# Altium schematic symbol library Macropad.SchLib: 7 symbols
Pins are listed as number, name and electrical type; pins without a type are passive.

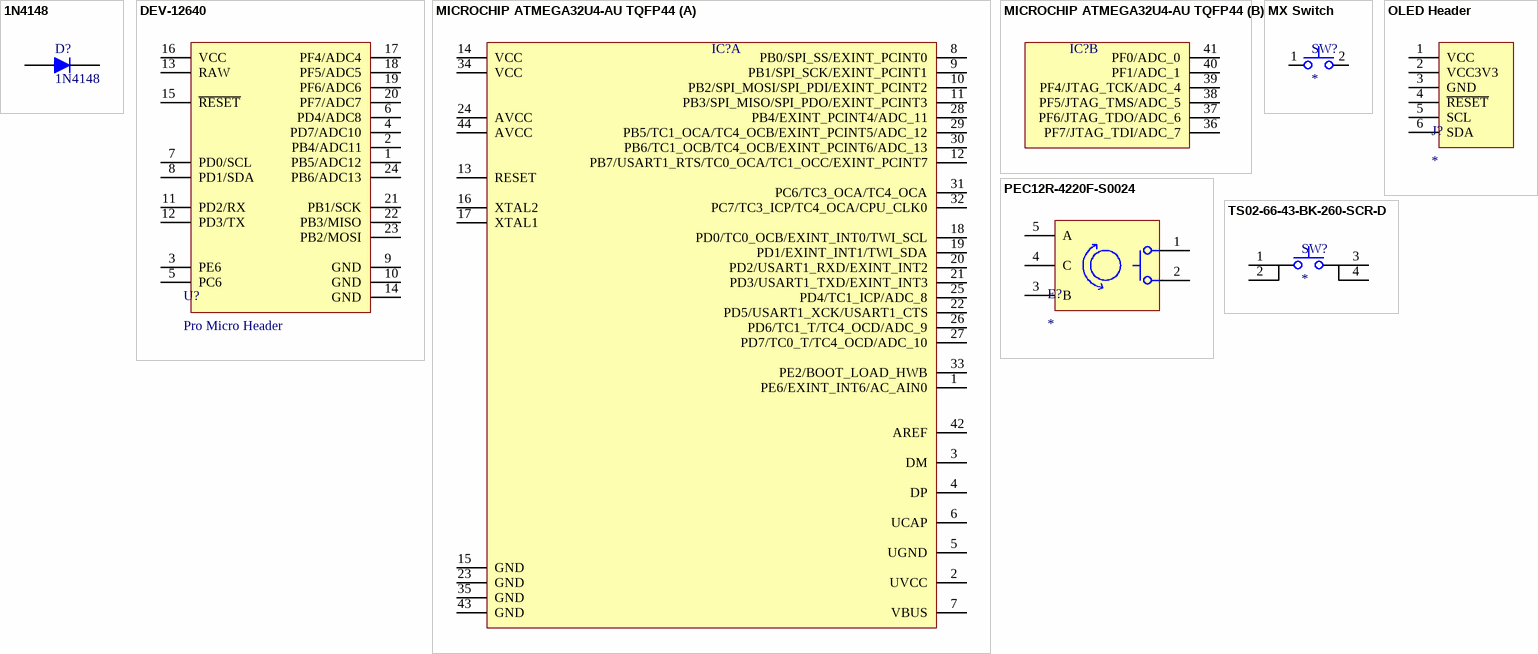
[diagram p0: symbols 1N4148 to TS02-66-43-BK-260-SCR-D]

## 1N4148
designator D?
Rectifier Diode, 1 Phase, 1 Element, 0.2A, 100V V(RRM), Silicon, DO-35; Manufacturer: NXP Semiconductors; Package Body Material: Glass; Number of Elements: 1; Max Output Current: 200mA; Reverse Recovery Time-Max: 0.004us; Surface Mount: No; Case Connection: Isolated; Forward Voltage-Max (VF): 1V; Non-rep Pk Forward Current-Max: 2A; Max Power Dissipation: 500mW; Max Reverse Current: 25nA; Time @ Peak Reflow Temperature-Max (s): 30s; Qualification Status: Not Qualified; RoHS: Yes; Category: Rectifier Diodes; Number of Pins: 2; Diode Element Material: SILICON; Package Shape: Round; Terminal Finish: Tin; Max Operating Temperature: 200°C; Diode Type: RECTIFIER; Rep Pk Reverse Voltage-Max: 100V; JESD-30 Code: O-LALF-W2; Package Style: LONG FORMMeter; Terminal Form: Wire; Terminal Position: AXIAL; JESD-609 Code: e3; Moisture Sensitivity Level: 1; Peak Reflow Temperature (Cel): 260°C; REACH SVHC: Yes; RoHS Compliant: Yes; JEDEC-95 Code: DO-35; ComponentLink1URL: https://datasheet.ciiva.com:443/pdfs/VipMasterIC/IC/PHGL/PHGLS21761/PHGLS21761-1.pdf?src-supplier=IHS+Markit; ComponentLink1Description: https://datasheet.ciiva.com:443/pdfs/VipMasterIC/IC/PHGL/PHGLS21761/PHGLS21761-1.pdf?src-supplier=IHS+Markit; ComponentLink2URL: https://datasheet.ciiva.com/1179/1720485-1179297.pdf?src-supplier=Element14; ComponentLink2Description: https://datasheet.ciiva.com/1179/1720485-1179297.pdf?src-supplier=Element14; ComponentLink3URL: https://datasheet.ciiva.com/26921/getdatasheetpartid-764103-26921186.pdf?src-supplier=Verical; ComponentLink3Description: https://datasheet.ciiva.com/26921/getdatasheetpartid-764103-26921186.pdf?src-supplier=Verical; Supplier 1: Digi-Key; Supplier Part Number 1: 1N4148FS-ND; Manufacturer Part Number: 1N4148
pins: A, K

## DEV-12640
designator U?, comment Pro Micro Header
Pro Micro
footprint DEV-12640 (Pro Micro)
pins: 1 PB5/ADC12, 2 PB4/ADC11, 3 PE6, 4 PD7/ADC10, 5 PC6, 6 PD4/ADC8, 7 PD0/SCL, 8 PD1/SDA, 9 GND, 10 GND, 11 PD2/RX, 12 PD3/TX, 13 RAW, 14 GND, 15 ~{RESET}, 16 VCC, 17 PF4/ADC4, 18 PF5/ADC5, 19 PF6/ADC6, 20 PF7/ADC7, 21 PB1/SCK, 22 PB3/MISO, 23 PB2/MOSI, 24 PB6/ADC13

## MICROCHIP ATMEGA32U4-AU TQFP44
designator IC?  (value not drawn)
footprint QFP_800_1200X1200X120_44 (TQFP, 44-Leads, Body 10.00x10.00mm, Pitch 0.80mm, IPC Medium Density)
part A pins: 1 PE6/EXINT_INT6/AC_AIN0, 2 UVCC, 3 DM, 4 DP, 5 UGND, 6 UCAP, 7 VBUS, 8 PB0/SPI_SS/EXINT_PCINT0, 9 PB1/SPI_SCK/EXINT_PCINT1, 10 PB2/SPI_MOSI/SPI_PDI/EXINT_PCINT2, 11 PB3/SPI_MISO/SPI_PDO/EXINT_PCINT3, 12 PB7/USART1_RTS/TC0_OCA/TC1_OCC/EXINT_PCINT7, 13 RESET, 14 VCC, 15 GND, 16 XTAL2, 17 XTAL1, 18 PD0/TC0_OCB/EXINT_INT0/TWI_SCL, 19 PD1/EXINT_INT1/TWI_SDA, 20 PD2/USART1_RXD/EXINT_INT2, 21 PD3/USART1_TXD/EXINT_INT3, 22 PD5/USART1_XCK/USART1_CTS, 23 GND, 24 AVCC, 25 PD4/TC1_ICP/ADC_8, 26 PD6/TC1_T/TC4_OCD/ADC_9, 27 PD7/TC0_T/TC4_OCD/ADC_10, 28 PB4/EXINT_PCINT4/ADC_11, 29 PB5/TC1_OCA/TC4_OCB/EXINT_PCINT5/ADC_12, 30 PB6/TC1_OCB/TC4_OCB/EXINT_PCINT6/ADC_13, 31 PC6/TC3_OCA/TC4_OCA, 32 PC7/TC3_ICP/TC4_OCA/CPU_CLK0, 33 PE2/BOOT_LOAD_HWB, 34 VCC, 35 GND, 42 AREF, 43 GND, 44 AVCC
part B pins: 36 PF7/JTAG_TDI/ADC_7, 37 PF6/JTAG_TDO/ADC_6, 38 PF5/JTAG_TMS/ADC_5, 39 PF4/JTAG_TCK/ADC_4, 40 PF1/ADC_1, 41 PF0/ADC_0

## MX Switch
designator SW?
footprint MXSwitch
pins: 1, 2

## OLED Header
designator J?
footprint OLED
pins: 1 VCC, 2 VCC3V3, 3 GND, 4 ~{RESET}, 5 SCL, 6 SDA

## PEC12R-4220F-S0024
designator E?
ComponentLink1Description: Datasheet; ComponentLink1URL: https://www.bourns.com/docs/Product-Datasheets/PEC12R.pdf; Parameter 1: *
pins: 1, 2, 3 B, 4 C, 5 A

## TS02-66-43-BK-260-SCR-D
designator SW?
footprint TS02-66-43-BK-260-SCR-D (6 X 6 MM, 4.3 MM ACTUATOR HEIGHT)
pins: 1, 2, 3, 4